# Altium schematic symbol library cherryMXSwitches.SchLib: 1 symbol
Pins are listed as number, name and electrical type; pins without a type are passive.

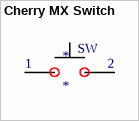
[diagram p0: symbol Cherry MX Switch]

## Cherry MX Switch
designator *
text: SW; 1; 2